# EAGLE library part OPA2209 (library CYCFI_semicon)
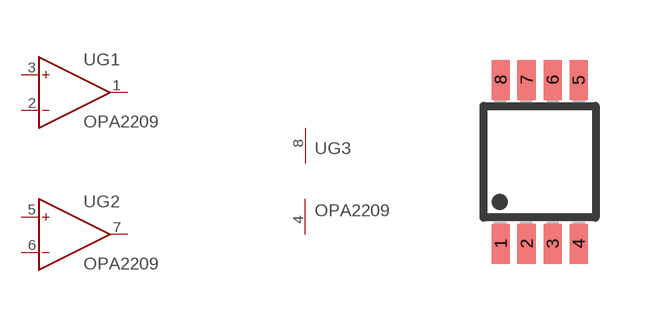
[diagram p3: symbol with the pads of MSOP8; footprint MSOP8]

Designator prefix -; gates G1=OP G2=OP G3=PWR+-

## OPA2209  [MSOP8]
1  G1:OUT  out
2  G1:IN-  in
3  G1:IN+  in
4  G3:V-  pwr
5  G2:IN+  in
6  G2:IN-  in
7  G2:OUT  out
8  G3:V+  pwr

## Footprint MSOP8 (pad centres in mm)
smd 0.45 x 1: 1 -0.975,-2.05; 2 -0.325,-2.05; 3 0.325,-2.05; 4 0.975,-2.05; 5 0.975,2.05; 6 0.325,2.05; 7 -0.325,2.05; 8 -0.975,2.05